# EAGLE library part AE452103AH-970 (library saw-filters-narrowband)
AE452103AH-970 Параметр Ед. изм. Мин. значение Тип. значение Макс. значение Центральная частота МГц 968.5 970 971.5 Минимальное вносимое затухание дБ - 4.4 5.5 Полоса среза по уровню -0.5 дБ МГц 11.5 14.5 - Полоса среза по уровню -40 дБ МГц - 49 - Неравномерность АЧХ дБ - 0.4 0.5 Групповое время задержки нс - - - Гарантированное затухание дБ - 50 - Температурный диапазон °C -55 22 +85 Материал подложки - - Танталат лития 36 -
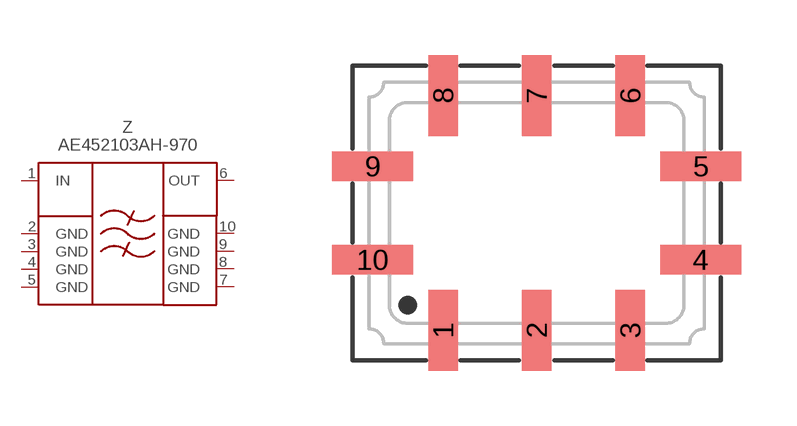
[diagram p105: symbol with the pads of QCC10-1; footprint QCC10-1]

Designator prefix Z

## AE452103AH-970  [QCC10-1]
1  IN  in
2  GND  pwr
3  GND  pwr
4  GND  pwr
5  GND  pwr
6  OUT  out
7  GND  pwr
8  GND  pwr
9  GND  pwr
10  GND  pwr

## Footprint QCC10-1 (pad centres in mm)
smd 0.8 x 2.2: 1 -2.54,-3.185; 2 0,-3.185; 3 2.54,-3.185; 6 2.54,3.185; 7 0,3.185; 8 -2.54,3.185
smd 2.2 x 0.8: 4 4.455,-1.27; 5 4.455,1.27; 9 -4.455,1.27; 10 -4.455,-1.27